# Altium integrated library TSW-104-08-T-D.IntLib: 1 symbol
Pins are listed as number, name and electrical type; pins without a type are passive.

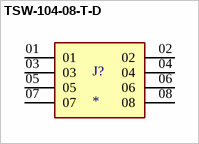
[diagram p0: symbol TSW-104-08-T-D]

## TSW-104-08-T-D
designator J?
MP: TSW-104-08-T-D; Package: None; Price: None; Value: *; Availability: Unavailable
footprint SAMTEC_TSW-104-08-T-D
pins: 01, 02, 03, 04, 05, 06, 07, 08